# EAGLE library part AT91SAM7S64 (library atmel_prototype_header)
Atmel AT91 ARM Thumb-based Microcontroller. LQFP64 package.
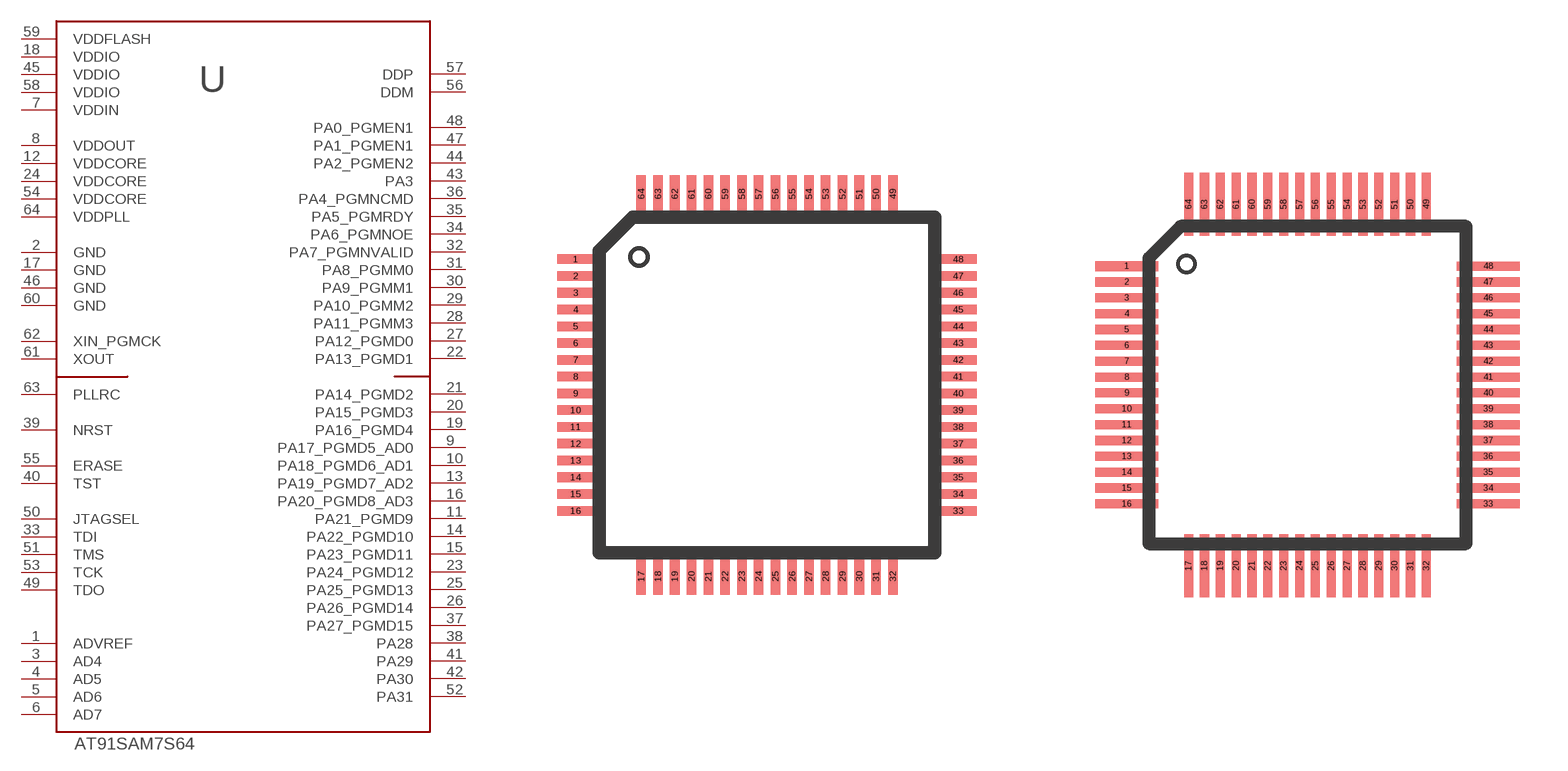
[diagram p8: symbol with the pads of LQFP64; footprints LQFP64, LQFP64_MILL]

Designator prefix U

## AT91SAM7S64_LQFP64  [LQFP64]
1  ADVREF  in
2  GND
3  AD4
4  AD5
5  AD6
6  AD7
7  VDDIN
8  VDDOUT
9  PA17_PGMD5_AD0
10  PA18_PGMD6_AD1
11  PA21_PGMD9
12  VDDCORE
13  PA19_PGMD7_AD2
14  PA22_PGMD10
15  PA23_PGMD11
16  PA20_PGMD8_AD3
17  GND
18  VDDIO
19  PA16_PGMD4
20  PA15_PGMD3  in
21  PA14_PGMD2  pwr
22  PA13_PGMD1  pwr
23  PA24_PGMD12
24  VDDCORE
25  PA25_PGMD13
26  PA26_PGMD14
27  PA12_PGMD0
28  PA11_PGMM3
29  PA10_PGMM2
30  PA9_PGMM1
31  PA8_PGMM0
32  PA7_PGMNVALID
33  TDI
34  PA6_PGMNOE
35  PA5_PGMRDY  out
36  PA4_PGMNCMD  out
37  PA27_PGMD15  out
38  PA28  out
39  NRST  out
40  TST  out
41  PA29  out
42  PA30  out
43  PA3
44  PA2_PGMEN2
45  VDDIO
46  GND
47  PA1_PGMEN1
48  PA0_PGMEN1
49  TDO
50  JTAGSEL
51  TMS
52  PA31  pwr
53  TCK  pwr
54  VDDCORE  in
55  ERASE  in
56  DDM  in
57  DDP  in
58  VDDIO  in
59  VDDFLASH  in
60  GND  in
61  XOUT  in
62  XIN_PGMCK
63  PLLRC
64  VDDPLL

## AT91SAM7S64_LQFP64_MILL  [LQFP64_MILL]
Pads as for LQFP64

## AT91SAM7S64_DUAL64_43  [HEADER_DUALSQR64_43]
Pads as for LQFP64

## AT91SAM7S64_DUAL64_35  [HEADER_DUALSQR64_35]
Pads as for LQFP64

## AT91SAM7S64_PLCC64_43  [HEADER_PLCC64_43]
Pads as for LQFP64

## AT91SAM7S64_PLCC64_35  [HEADER_PLCC64_35]
Pads as for LQFP64

## Footprint LQFP64 (pad centres in mm)
Plastic Low Profile Quad Flat Package. From ti_msp430.lbr
smd 1.1 x 0.285: 1 -5.7,3.75; 2 -5.7,3.25; 3 -5.7,2.75; 4 -5.7,2.25; 5 -5.7,1.75; 6 -5.7,1.25; 7 -5.7,0.75; 8 -5.7,0.25; 9 -5.7,-0.25; 10 -5.7,-0.75; 11 -5.7,-1.25; 12 -5.7,-1.75; 13 -5.7,-2.25; 14 -5.7,-2.75; 15 -5.7,-3.25; 16 -5.7,-3.75; 33 5.7,-3.75; 34 5.7,-3.25; 35 5.7,-2.75; 36 5.7,-2.25; 37 5.7,-1.75; 38 5.7,-1.25; 39 5.7,-0.75; 40 5.7,-0.25; 41 5.7,0.25; 42 5.7,0.75; 43 5.7,1.25; 44 5.7,1.75; 45 5.7,2.25; 46 5.7,2.75; 47 5.7,3.25; 48 5.7,3.75
smd 0.285 x 1.1: 17 -3.75,-5.7; 18 -3.25,-5.7; 19 -2.75,-5.7; 20 -2.25,-5.7; 21 -1.75,-5.7; 22 -1.25,-5.7; 23 -0.75,-5.7; 24 -0.25,-5.7; 25 0.25,-5.7; 26 0.75,-5.7; 27 1.25,-5.7; 28 1.75,-5.7; 29 2.25,-5.7; 30 2.75,-5.7; 31 3.25,-5.7; 32 3.75,-5.7; 49 3.75,5.7; 50 3.25,5.7; 51 2.75,5.7; 52 2.25,5.7; 53 1.75,5.7; 54 1.25,5.7; 55 0.75,5.7; 56 0.25,5.7; 57 -0.25,5.7; 58 -0.75,5.7; 59 -1.25,5.7; 60 -1.75,5.7; 61 -2.25,5.7; 62 -2.75,5.7; 63 -3.25,5.7; 64 -3.75,5.7

## Footprint LQFP64_MILL (pad centres in mm)
Plastic Low Profile Quad Flat Package. Mill spec. from ti_msp430.lbr
smd 2 x 0.287: 1 -5.7,3.75; 2 -5.7,3.25; 3 -5.7,2.75; 4 -5.7,2.25; 5 -5.7,1.75; 6 -5.7,1.25; 7 -5.7,0.75; 8 -5.7,0.25; 9 -5.7,-0.25; 10 -5.7,-0.75; 11 -5.7,-1.25; 12 -5.7,-1.75; 13 -5.7,-2.25; 14 -5.7,-2.75; 15 -5.7,-3.25; 16 -5.7,-3.75; 33 5.7,-3.75; 34 5.7,-3.25; 35 5.7,-2.75; 36 5.7,-2.25; 37 5.7,-1.75; 38 5.7,-1.25; 39 5.7,-0.75; 40 5.7,-0.25; 41 5.7,0.25; 42 5.7,0.75; 43 5.7,1.25; 44 5.7,1.75; 45 5.7,2.25; 46 5.7,2.75; 47 5.7,3.25; 48 5.7,3.75
smd 0.287 x 2: 17 -3.75,-5.7; 18 -3.25,-5.7; 19 -2.75,-5.7; 20 -2.25,-5.7; 21 -1.75,-5.7; 22 -1.25,-5.7; 23 -0.75,-5.7; 24 -0.25,-5.7; 25 0.25,-5.7; 26 0.75,-5.7; 27 1.25,-5.7; 28 1.75,-5.7; 29 2.25,-5.7; 30 2.75,-5.7; 31 3.25,-5.7; 32 3.75,-5.7; 49 3.75,5.7; 50 3.25,5.7; 51 2.75,5.7; 52 2.25,5.7; 53 1.75,5.7; 54 1.25,5.7; 55 0.75,5.7; 56 0.25,5.7; 57 -0.25,5.7; 58 -0.75,5.7; 59 -1.25,5.7; 60 -1.75,5.7; 61 -2.25,5.7; 62 -2.75,5.7; 63 -3.25,5.7; 64 -3.75,5.7

## Footprint HEADER_DUALSQR64_43 (pad centres in mm)
drill 1.1 square: 1 -13.97,8.89
drill 1.1 round: 2 -11.43,8.89; 3 -13.97,6.35; 4 -11.43,6.35; 5 -13.97,3.81; 6 -11.43,3.81; 7 -13.97,1.27; 8 -11.43,1.27; 9 -13.97,-1.27; 10 -11.43,-1.27; 11 -13.97,-3.81; 12 -11.43,-3.81; 13 -13.97,-6.35; 14 -11.43,-6.35; 15 -13.97,-8.89; 16 -11.43,-8.89; 17 -8.89,-13.97; 18 -8.89,-11.43; 19 -6.35,-13.97; 20 -6.35,-11.43; 21 -3.81,-13.97; 22 -3.81,-11.43; 23 -1.27,-13.97; 24 -1.27,-11.43; 25 1.27,-13.97; 26 1.27,-11.43; 27 3.81,-13.97; 28 3.81,-11.43; 29 6.35,-13.97; 30 6.35,-11.43; 31 8.89,-13.97; 32 8.89,-11.43; 33 13.97,-8.89; 34 11.43,-8.89; 35 13.97,-6.35; 36 11.43,-6.35; 37 13.97,-3.81; 38 11.43,-3.81; 39 13.97,-1.27; 40 11.43,-1.27; 41 13.97,1.27; 42 11.43,1.27; 43 13.97,3.81; 44 11.43,3.81; 45 13.97,6.35; 46 11.43,6.35; 47 13.97,8.89; 48 11.43,8.89; 49 8.89,13.97; 50 8.89,11.43; 51 6.35,13.97; 52 6.35,11.43; 53 3.81,13.97; 54 3.81,11.43; 55 1.27,13.97; 56 1.27,11.43; 57 -1.27,13.97; 58 -1.27,11.43; 59 -3.81,13.97; 60 -3.81,11.43; 61 -6.35,13.97; 62 -6.35,11.43; 63 -8.89,13.97; 64 -8.89,11.43

## Footprint HEADER_DUALSQR64_35 (pad centres in mm)
drill 0.9 square: 1 -13.97,8.89
drill 0.9 round: 2 -11.43,8.89; 3 -13.97,6.35; 4 -11.43,6.35; 5 -13.97,3.81; 6 -11.43,3.81; 7 -13.97,1.27; 8 -11.43,1.27; 9 -13.97,-1.27; 10 -11.43,-1.27; 11 -13.97,-3.81; 12 -11.43,-3.81; 13 -13.97,-6.35; 14 -11.43,-6.35; 15 -13.97,-8.89; 16 -11.43,-8.89; 17 -8.89,-13.97; 18 -8.89,-11.43; 19 -6.35,-13.97; 20 -6.35,-11.43; 21 -3.81,-13.97; 22 -3.81,-11.43; 23 -1.27,-13.97; 24 -1.27,-11.43; 25 1.27,-13.97; 26 1.27,-11.43; 27 3.81,-13.97; 28 3.81,-11.43; 29 6.35,-13.97; 30 6.35,-11.43; 31 8.89,-13.97; 32 8.89,-11.43; 33 13.97,-8.89; 34 11.43,-8.89; 35 13.97,-6.35; 36 11.43,-6.35; 37 13.97,-3.81; 38 11.43,-3.81; 39 13.97,-1.27; 40 11.43,-1.27; 41 13.97,1.27; 42 11.43,1.27; 43 13.97,3.81; 44 11.43,3.81; 45 13.97,6.35; 46 11.43,6.35; 47 13.97,8.89; 48 11.43,8.89; 49 8.89,13.97; 50 8.89,11.43; 51 6.35,13.97; 52 6.35,11.43; 53 3.81,13.97; 54 3.81,11.43; 55 1.27,13.97; 56 1.27,11.43; 57 -1.27,13.97; 58 -1.27,11.43; 59 -3.81,13.97; 60 -3.81,11.43; 61 -6.35,13.97; 62 -6.35,11.43; 63 -8.89,13.97; 64 -8.89,11.43

## Footprint HEADER_PLCC64_43 (pad centres in mm)
drill 1.1 square: 1 -12.7,7.62
drill 1.1 round: 2 -10.16,7.62; 3 -12.7,5.08; 4 -10.16,5.08; 5 -12.7,2.54; 6 -10.16,2.54; 7 -12.7,0; 8 -10.16,0; 9 -12.7,-2.54; 10 -10.16,-2.54; 11 -12.7,-5.08; 12 -10.16,-5.08; 13 -12.7,-7.62; 14 -10.16,-7.62; 15 -12.7,-10.16; 16 -10.16,-10.16; 17 -7.62,-12.7; 18 -7.62,-10.16; 19 -5.08,-12.7; 20 -5.08,-10.16; 21 -2.54,-12.7; 22 -2.54,-10.16; 23 0,-12.7; 24 0,-10.16; 25 2.54,-12.7; 26 2.54,-10.16; 27 5.08,-12.7; 28 5.08,-10.16; 29 7.62,-12.7; 30 7.62,-10.16; 31 10.16,-12.7; 32 10.16,-10.16; 33 12.7,-7.62; 34 10.16,-7.62; 35 12.7,-5.08; 36 10.16,-5.08; 37 12.7,-2.54; 38 10.16,-2.54; 39 12.7,0; 40 10.16,0; 41 12.7,2.54; 42 10.16,2.54; 43 12.7,5.08; 44 10.16,5.08; 45 12.7,7.62; 46 10.16,7.62; 47 12.7,10.16; 48 10.16,10.16; 49 7.62,12.7; 50 7.62,10.16; 51 5.08,12.7; 52 5.08,10.16; 53 2.54,12.7; 54 2.54,10.16; 55 0,12.7; 56 0,10.16; 57 -2.54,12.7; 58 -2.54,10.16; 59 -5.08,12.7; 60 -5.08,10.16; 61 -7.62,12.7; 62 -7.62,10.16; 63 -10.16,12.7; 64 -10.16,10.16
hole 1.1 at -12.7,10.16
hole 1.1 at 10.16,12.7
hole 1.1 at 12.7,-10.16
hole 1.1 at -10.16,-12.7

## Footprint HEADER_PLCC64_35 (pad centres in mm)
drill 0.9 square: 1 -12.7,7.62
drill 0.9 round: 2 -10.16,7.62; 3 -12.7,5.08; 4 -10.16,5.08; 5 -12.7,2.54; 6 -10.16,2.54; 7 -12.7,0; 8 -10.16,0; 9 -12.7,-2.54; 10 -10.16,-2.54; 11 -12.7,-5.08; 12 -10.16,-5.08; 13 -12.7,-7.62; 14 -10.16,-7.62; 15 -12.7,-10.16; 16 -10.16,-10.16; 17 -7.62,-12.7; 18 -7.62,-10.16; 19 -5.08,-12.7; 20 -5.08,-10.16; 21 -2.54,-12.7; 22 -2.54,-10.16; 23 0,-12.7; 24 0,-10.16; 25 2.54,-12.7; 26 2.54,-10.16; 27 5.08,-12.7; 28 5.08,-10.16; 29 7.62,-12.7; 30 7.62,-10.16; 31 10.16,-12.7; 32 10.16,-10.16; 33 12.7,-7.62; 34 10.16,-7.62; 35 12.7,-5.08; 36 10.16,-5.08; 37 12.7,-2.54; 38 10.16,-2.54; 39 12.7,0; 40 10.16,0; 41 12.7,2.54; 42 10.16,2.54; 43 12.7,5.08; 44 10.16,5.08; 45 12.7,7.62; 46 10.16,7.62; 47 12.7,10.16; 48 10.16,10.16; 49 7.62,12.7; 50 7.62,10.16; 51 5.08,12.7; 52 5.08,10.16; 53 2.54,12.7; 54 2.54,10.16; 55 0,12.7; 56 0,10.16; 57 -2.54,12.7; 58 -2.54,10.16; 59 -5.08,12.7; 60 -5.08,10.16; 61 -7.62,12.7; 62 -7.62,10.16; 63 -10.16,12.7; 64 -10.16,10.16
hole 0.9 at -12.7,10.16
hole 0.9 at 10.16,12.7
hole 0.9 at 12.7,-10.16
hole 0.9 at -10.16,-12.7